# Altium footprint library esp32.PcbLib: 52 footprints (part 4 of 4)
Each footprint in its own frame and in the unit in brackets; x right, y up, seen from the top. Pads: shape width x height; smd on the part's side, far side on the other; paste and mask are expansions set on the pad; w line width, h text height; cw(c..) or ccw(c..) is an arc to the next point about the centre after c.
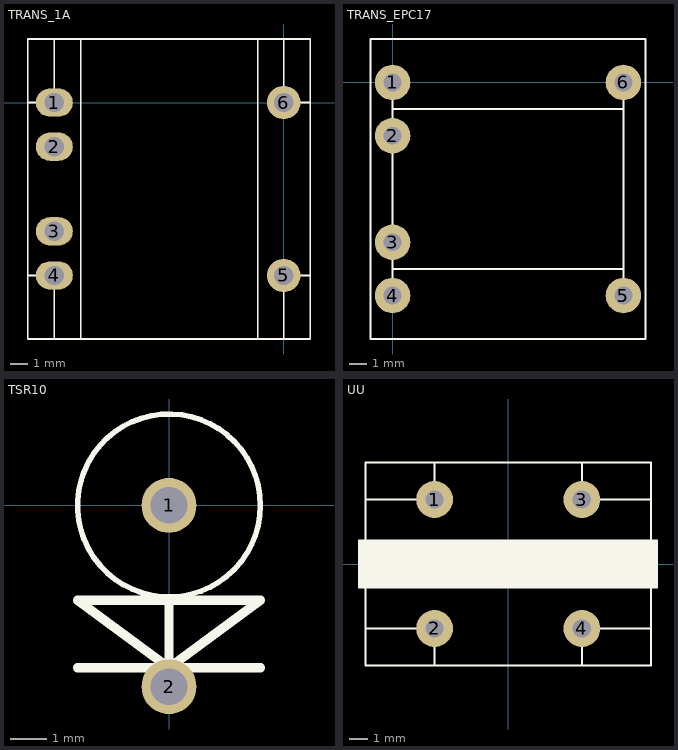
[diagram p3: the footprints below, top view; thin cyan lines are the x and y axes]

## TRANS_1A [mm]
pads (6):
  oval 2.1x1.6 hole 1.1: 1(-13,0) 2(-13,-2.5) 3(-13,-7.3) 4(-13,-9.8)
  round 1.9 hole 1.1: 5(0,-9.8) 6(0,0)
Top Overlay:
  lines w0.1: -11.506,-13.386 -11.506,3.6 -10.947,3.6 ; -1.575,3.6 -1.473,3.6 -1.473,-13.4 ; -14.5,-9.8 -13,-9.8 -13,-13.4 ; -14.5,-9.8 -14.5,0 ; -14.5,-9.8 -14.5,-13.4 -13,-13.4 ; -14.5,0 -13,0 -13,3.6 ; -14.5,0 -14.5,3.6 -13,3.6 ; -13,-13.4 0,-13.4 ; -13,3.6 0,3.6 ; 0,-13.4 0,-9.8 1.5,-9.8 ; 0,-13.4 1.5,-13.4 1.5,-9.8 ; 0,3.6 0,0 1.5,0 ; 0,3.6 1.5,3.6 1.5,0 ; 1.5,-9.8 1.5,0

## TRANS_EPC17 [mm]
pads (6):
  round 2 hole 1: 1(0,0) 2(0,-3) 3(0,-9) 4(0,-12) 5(13,-12) 6(13,0)
Top Overlay:
  lines w0.1: 0,-12 0,-9 ; 0,-1.5 13,-1.5 ; 0,0 0,-3 0,-10.5 13,-10.5 ; 13,-12 13,-10.5 ; 13,0 13,-1.5 ; 13,-10.5 13,-1.5 ; -1.25,-14.45 -1.25,0 -1.25,2.45 14.25,2.45 14.25,-14.45 13,-14.45 -1.25,-14.45

## TSR10 [mm]
pads (2):
  round 1.5 hole 1: 1(0,0) 2(0,-4.953)
Top Overlay:
  circle w0.15: c0,0 r2.5
  lines w0.254: -2.5,-4.438 -0.152,-4.438 0.652,-4.438 ; 2.5,-4.438 0,-4.438 ; 0,-4.438 -2.5,-2.591 0,-2.591 ; 0,-4.438 2.5,-2.591 0,-2.591 ; 0,-4.438 0,-2.591

## UU [mm] "UU"
pads (4):
  round 2 hole 1: 1(-4,3.5) 2(-4,-3.5) 3(4,3.5) 4(4,-3.5)
Top Overlay:
  rectangle: -8.153,-0.102 8.128,1.321
  rectangle: -8.153,-1.321 8.128,0.102
  lines w0.1: -7.75,-3.5 -4,-3.5 -4,-5.5 ; -7.75,-3.5 -7.75,-5.5 -4,-5.5 ; -7.75,-3.5 -7.75,3.5 ; -7.75,3.5 -4,3.5 -4,5.5 ; -7.75,3.5 -7.75,5.5 -4,5.5 ; -4,-5.5 4,-5.5 ; -4,5.5 4,5.5 ; 4,-5.5 4,-3.5 7.75,-3.5 ; 4,-5.5 7.75,-5.5 7.75,-3.5 ; 4,5.5 4,3.5 7.75,3.5 ; 4,5.5 7.75,5.5 7.75,3.5 ; 7.75,-3.5 7.75,3.5